# Altium footprint library RLC.PcbLib: 64 footprints (part 1 of 4)
Each footprint in its own frame and in the unit in brackets; x right, y up, seen from the top. Pads: shape width x height; smd on the part's side, far side on the other; paste and mask are expansions set on the pad; w line width, h text height; cw(c..) or ccw(c..) is an arc to the next point about the centre after c.
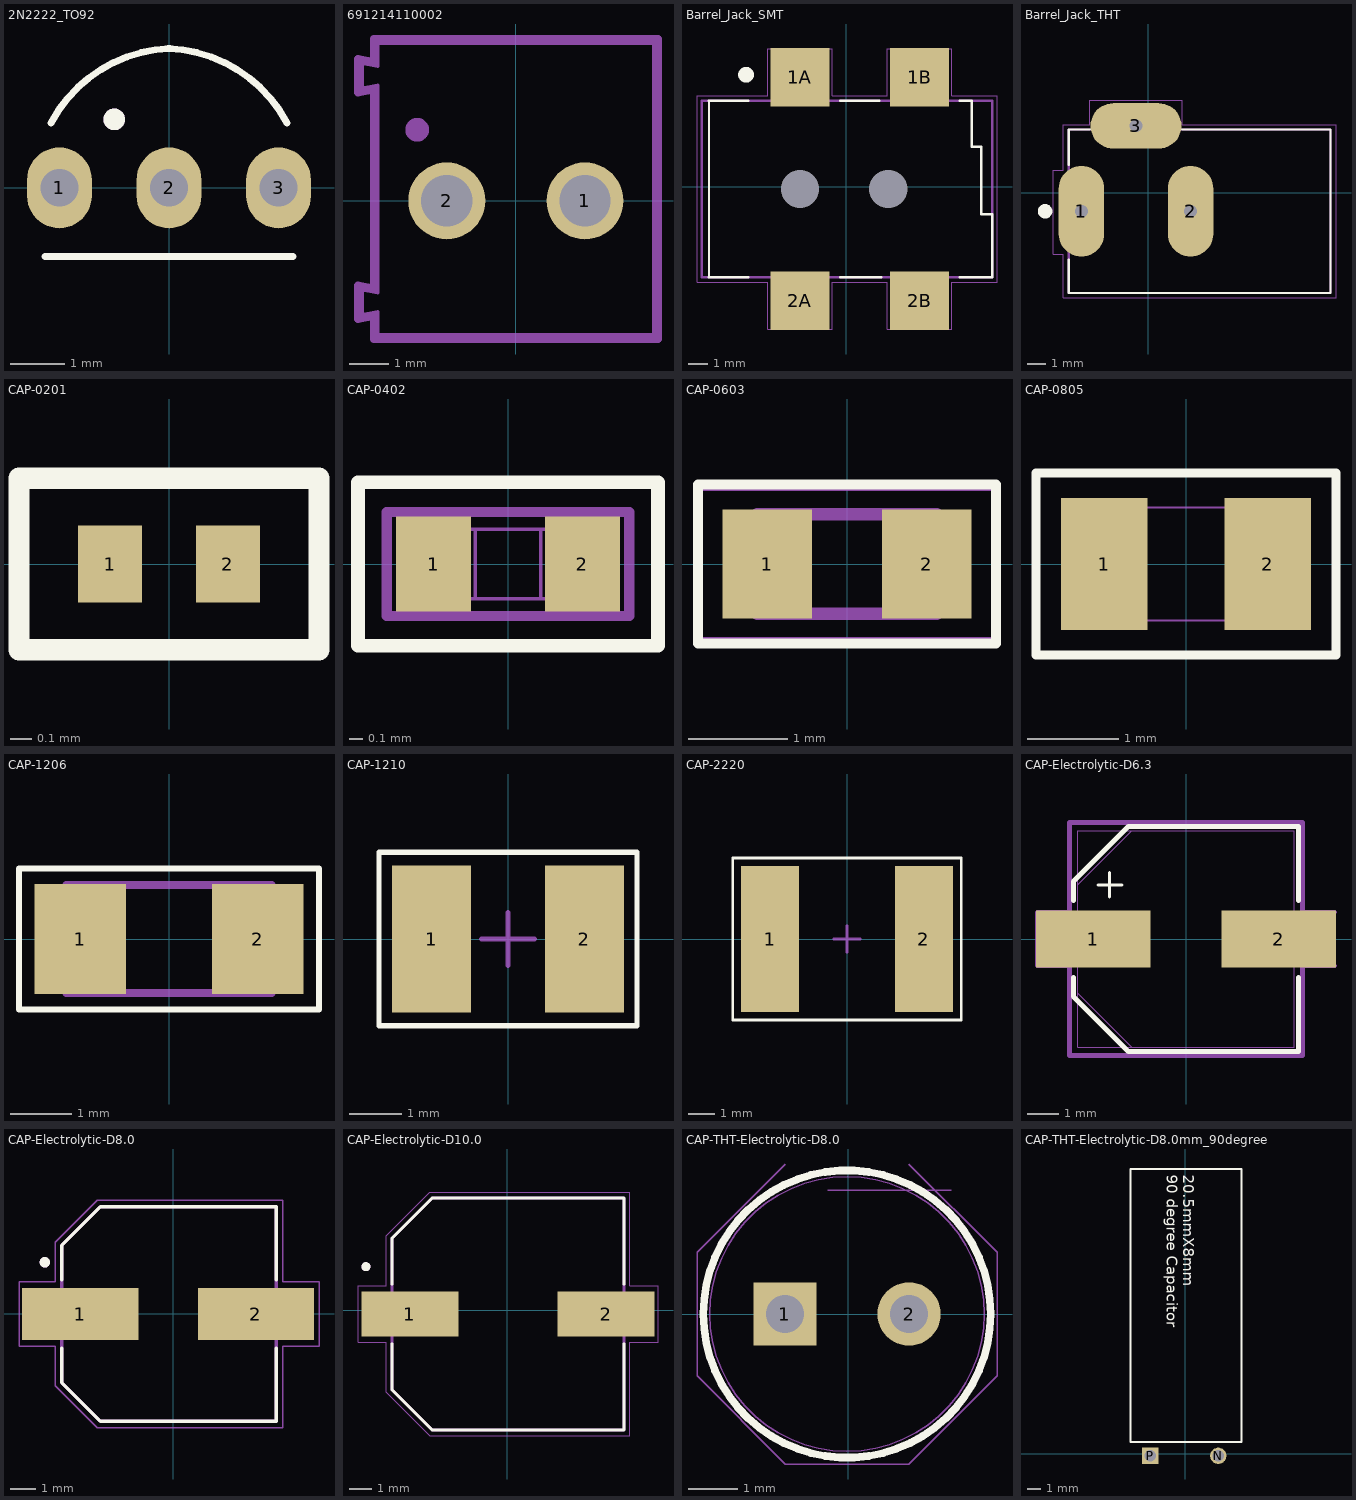
[diagram p0: the footprints below, top view; thin cyan lines are the x and y axes]

## 2N2222_TO92 [mm]
pads (3):
  oval 1.2x1.5 hole 0.7 mask+0.07: 1(-2.032,0) 2(0,0) 3(2.032,0)
Top Overlay:
  circle w0.2: c-1.016,1.27 r0.1
  lines w0.127: -2.3,-1.27 -0.896,-1.27 0.896,-1.27 2.3,-1.27 ; -2.19,1.203 cw(c0.112,-0.021) 0.021,2.585 ; -0.021,2.585 cw(c-0.112,-0.021) 2.19,1.203
Mechanical 13:
  circle w0.2: c-1.016,1.27 r0.1
  text "E B C" at -1.832,0.962 h0.8
3D body "2N2222.step": height 8.33, standoff -12.62, extent -2.379,-1.556 2.38,2.064

## 691214110002 [mm]
pads (2):
  round 1.95 hole 1.3: 1(1.75,0) 2(-1.75,0)
Mechanical 13:
  circle w0.4: c-2.5,1.8 r0.1
  lines w0.1: -3.9,-2.895 -3.9,-2.245 -3.5,-2.32 -3.5,2.92 -3.9,2.845 -3.9,3.495 -3.5,3.42 -3.5,4 3.5,4 3.5,-3.4 -3.5,-3.4 -3.5,-2.82 -3.9,-2.895
  lines w0.2: -4,-2.995 -3.6,-2.92 -3.6,-3.5 3.6,-3.5 3.6,4.1 -3.6,4.1 -3.6,3.52 -4,3.595 -4,2.745 -3.6,2.82 -3.6,-2.22 -4,-2.145 -4,-2.995
3D body "691214110002+%28rev1%29.stp": height 8.6, standoff -3.6, extent -3.646,-3.446 3.754,3.954

## Barrel_Jack_SMT [mm]
pads (6):
  rect 3x3 smd: 1A(-2.352,5.574) 1B(3.748,5.574) 2A(-2.352,-5.826) 2B(3.748,-5.826)
  round 1.9 hole 1.95 unplated: ""(-2.352,-0.126) ""(2.148,-0.126)
Top Overlay:
  circle w0.4: c-5.1,5.7 r0.2
  lines w0.1: -7,-4.626 -7,4.374
  lines w0.127: -7,-4.626 -5,-4.626 ; -7,4.374 -5,4.374 ; -0.3,-4.626 1.8,-4.626 ; -0.3,4.374 1.7,4.374 ; 5.8,-4.626 7.448,-4.626 7.448,-1.426 6.898,-1.426 6.898,2.024 6.398,2.024 6.398,4.374 5.8,4.374
Mechanical 13:
  lines w0.127: -7.352,-4.626 -7.352,4.374 7.448,4.374 7.448,-4.626 -7.352,-4.626
Mechanical 15:
  lines w0.05: -7.602,-4.876 -4.002,-4.876 -4.002,-7.276 -0.702,-7.276 -0.702,-4.876 2.098,-4.876 2.098,-7.276 5.398,-7.276 5.398,-4.876 7.698,-4.876 7.698,4.624 5.398,4.624 5.398,7.024 2.098,7.024 2.098,4.624 -0.702,4.624 -0.702,7.024 -4.002,7.024 -4.002,4.624 -7.602,4.624 -7.602,-4.876
3D body "Barrel_Jack_54-00164.STEP": height 11, standoff -1.2, extent -7.25,-6.2 7.45,6.2

## Barrel_Jack_THT [mm]
pads (3):
  oval 2.5x5 hole 0.7 square: 1(-3.683,-1.007) 2(2.317,-1.007)
  oval 5x2.5 hole 0.7 square: 3(-0.683,3.693)
Top Overlay:
  circle w0.4: c-5.683,-1.007 r0.2
  lines w0.127: -4.383,-3.657 -4.383,-5.507 10.017,-5.507 10.017,3.493 1.867,3.493 ; -4.383,1.543 -4.383,3.493 -3.233,3.493
Mechanical 13:
  lines w0.127: -4.383,-5.507 -4.383,3.493 10.017,3.493 10.017,-5.507 -4.383,-5.507
Mechanical 15:
  lines w0.05: -5.233,-3.357 -4.683,-3.357 -4.683,-5.757 10.317,-5.757 10.317,3.743 1.867,3.743 1.867,5.093 -3.233,5.093 -3.233,3.743 -4.683,3.743 -4.683,1.243 -5.233,1.243 -5.233,-3.357
3D body "Barrel_Jack_THT.STEP": height 11, standoff -3.5, extent -4.24,-5.77 10.16,3.63

## CAP-0201 [mm]
pads (2):
  rect 0.3x0.36 smd paste+0 mask+0.04: 1(-0.275,0) 2(0.275,0)
Top Overlay:
  lines w0.1: -0.7,-0.4 0.7,-0.4 0.7,0.4 -0.7,0.4 -0.7,-0.4
3D body "CAP-0201.step": height 0.3, standoff 0, extent -0.3,-0.165 0.3,0.165

## CAP-0402 [mm]
pads (2):
  rect 0.55x0.7 smd paste+0 mask+0.06: 1(-0.546,0) 2(0.546,0)
Top Overlay:
  lines w0.1: -1.1,-0.6 1.1,-0.6 1.1,0.6 -1.1,0.6 -1.1,-0.6
Mechanical 13:
  lines w0.025: -0.495,-0.254 -0.495,0.254 ; -0.495,-0.254 0.495,-0.254 ; -0.495,-0.254 -0.241,-0.254 -0.241,0.254 -0.495,0.254 ; -0.495,-0.254 -0.495,0.254 ; -0.495,0.254 0.495,0.254 ; 0.495,-0.254 0.495,0.254 ; 0.495,-0.254 0.495,0.254 ; 0.495,-0.254 0.241,-0.254 0.241,0.254 0.495,0.254
Mechanical 15:
  lines w0.076: -0.889,-0.381 0.889,-0.381 0.889,0.381 -0.889,0.381 -0.889,-0.381
3D body "G-155_MUR.step": height 0.56, standoff 0, extent -0.495,-0.254 0.495,0.254

## CAP-0603 [mm]
pads (2):
  rect 0.9x1.1 smd mask+0.06: 1(-0.8,0) 2(0.8,0)
Top Overlay:
  lines w0.1: -1.5,-0.8 -1.5,0.8 1.5,0.8 1.5,-0.8 -1.5,-0.8
Mechanical 13:
  lines w0.127: -0.9,-0.5 -0.9,0.5 0.9,0.5 0.9,-0.5 -0.9,-0.5
Mechanical 15:
  lines w0.05: -1.508,-0.758 -1.508,0.758 1.508,0.758 1.508,-0.758 -1.508,-0.758
3D body "CAP-0603.step": height 0.8, standoff 0, extent -0.8,-0.508 0.8,0.492

## CAP-0805 [mm]
pads (2):
  rect 0.95x1.45 smd paste+0 mask+0.06: 1(-0.9,0) 2(0.9,0)
Top Overlay:
  lines w0.1: -1.65,-1 1.65,-1 1.65,1 -1.65,1 -1.65,-1
Mechanical 13:
  lines w0.025: -1.003,-0.622 -1.003,0.622 ; -1.003,-0.622 -0.495,-0.622 -0.495,0.622 -1.003,0.622 ; -1.003,-0.622 1.003,-0.622 ; -1.003,-0.622 -1.003,0.622 ; -1.003,0.622 1.003,0.622 ; 1.003,-0.622 0.495,-0.622 0.495,0.622 1.003,0.622 ; 1.003,-0.622 1.003,0.622 ; 1.003,-0.622 1.003,0.622
3D body "CAP-0805.step": height 0.95, standoff 0, extent -1,-0.625 1,0.625

## CAP-1206 [mm]
pads (2):
  rect 1.5x1.8 smd mask+0.06: 1(-1.45,0) 2(1.45,0)
Top Overlay:
  lines w0.1: -2.45,-1.15 2.45,-1.15 2.45,1.15 -2.45,1.15 -2.45,-1.15
Mechanical 13:
  lines w0.127: -1.68,-0.88 1.68,-0.88 1.68,0.88 -1.68,0.88 -1.68,-0.88
3D body "step_temp.STEP": height 0.95, standoff 0, extent -1.6,-0.8 1.6,0.8

## CAP-1210 [mm] "CAP 1210"
pads (2):
  rect 1.5x2.8 smd paste+0 mask+0.06: 1(-1.45,0) 2(1.45,0)
Top Overlay:
  lines w0.1: -2.45,-1.65 2.45,-1.65 2.45,1.65 -2.45,1.65 -2.45,-1.65
Mechanical 16:
  lines w0.1: -0.5,0 0.5,0 ; 0,-0.5 0,0.5
3D body "CAP-1210.step": height 2.7, standoff 0, extent -1.6,-1.25 1.6,1.25

## CAP-2220 [mm]
pads (2):
  rect 2.2x5.5 smd paste+0 mask+0.06: 1(-2.9,0) 2(2.9,0)
Top Overlay:
  lines w0.1: -4.3,-3.05 4.3,-3.05 4.3,3.05 -4.3,3.05 -4.3,-3.05
Mechanical 16:
  lines w0.1: -0.5,0 0.5,0 ; 0,-0.5 0,0.5
3D body "CAP-2220.STEP": height 2.79, standoff 0, extent -2.85,-2.5 2.85,2.5

## CAP-Electrolytic-D6.3 [mm]
pads (2):
  rect 3.6x1.8 smd paste+0: 1(-2.908,0) 2(2.908,0)
Top Overlay:
  lines w0.1: -2.767,1.697 -2.005,1.697 ; -2.4,1.319 -2.4,2.081
  lines w0.152: -3.531,-1.2 -3.531,-1.809 -1.809,-3.531 3.531,-3.531 3.531,-1.2 ; -3.531,1.2 -3.531,1.814 -1.814,3.531 3.531,3.531 3.531,1.2
Mechanical 13:
  lines w0.025: -3.404,-1.702 -1.702,-3.404 ; -3.404,1.702 -1.702,3.404 ; -3.404,-3.404 3.404,-3.404 3.404,3.404 -3.404,3.404 -3.404,-3.404
Mechanical 15:
  lines w0.152: 4.661,-0.838 3.658,-0.838 3.658,-3.658 -3.658,-3.658 -3.658,-0.838 -4.661,-0.838 -4.661,0.838 -3.658,0.838 -3.658,3.658 3.658,3.658 3.658,0.838 4.661,0.838
3D body "CAP-D6.3mm-SMD_Aluminium_Electrolytic.step": height 7.7, standoff 0, extent -3.65,-3.3 3.65,3.3

## CAP-Electrolytic-D8.0 [mm]
pads (2):
  rect 4.5x2 smd mask+0.09: 1(-3.6,0) 2(3.2,0)
Top Overlay:
  circle w0.2: c-4.962,2 r0.1
  lines w0.127: -4.312,-1.32 -4.312,-2.65 -2.812,-4.15 3.988,-4.15 3.988,-1.32 ; -4.312,1.32 -4.312,2.65 -2.812,4.15 3.988,4.15 3.988,1.32
Mechanical 13:
  circle w0.2: c-4.962,2 r0.1
  lines w0.127: -4.312,-2.65 -4.312,2.65 -2.812,4.15 3.988,4.15 3.988,-4.15 -2.812,-4.15 -4.312,-2.65
Mechanical 15:
  lines w0.05: -5.962,-1.25 -4.562,-1.25 -4.562,-2.775 -2.937,-4.4 4.238,-4.4 4.238,-1.25 5.638,-1.25 5.638,1.25 4.238,1.25 4.238,4.4 -2.937,4.4 -4.562,2.775 -4.562,1.25 -5.962,1.25 -5.962,-1.25
3D body "step_temp.STEP": height 10.2, standoff 0, extent -5.012,-4.15 4.688,4.15

## CAP-Electrolytic-D10.0 [mm]
pads (2):
  rect 4.3x2 smd: 1(-4.311,-0.171) 2(4.389,-0.171)
Top Overlay:
  circle w0.2: c-6.261,1.929 r0.1
  lines w0.127: -5.111,-1.491 -5.111,-3.521 -3.311,-5.321 5.189,-5.321 5.189,-1.491 ; -5.111,1.149 -5.111,3.179 -3.311,4.979 5.189,4.979 5.189,1.149
Mechanical 13:
  circle w0.2: c-6.261,1.929 r0.1
  lines w0.127: -5.111,-3.521 -3.311,-5.321 5.189,-5.321 5.189,4.979 -3.311,4.979 -5.111,3.179 -5.111,-3.521
Mechanical 15:
  lines w0.05: -6.611,-1.421 -6.611,1.079 -5.361,1.079 -5.361,3.304 -3.436,5.229 5.439,5.229 5.439,1.079 6.689,1.079 6.689,-1.421 5.439,-1.421 5.439,-5.571 -3.436,-5.571 -5.361,-3.646 -5.361,-1.421 -6.611,-1.421
3D body "step_temp.STEP": height 10.2, standoff 0, extent -5.811,-5.321 5.889,4.979

## CAP-THT-Electrolytic-D8.0 [mil]
pads (2):
  rect 50x50 hole 30 paste-99999 mask+0: 1(-50,0)
  round 50 hole 30 paste-99999 mask+0: 2(48,0)
Top Overlay:
  circle w6: c-1,0 r113.5
Mechanical 13:
  circle w1: c-1,0 r108.5
Mechanical 15:
  lines w1: -49.79,118.5 -119.5,48.79 -119.5,-48.79 -49.79,-118.5 47.79,-118.5 117.5,-48.79 117.5,48.79 47.79,118.5 ; -16.31,97.64 81.28,97.64
3D body "CAP_THT_Lead_3.50mm_R8mm_8mm_Height.step": height 451.61, standoff -184.02, extent -166.08,-157.37 150,157.37

## CAP-THT-Electrolytic-D8.0mm_90degree [mm]
pads (2):
  round 1.2 hole 0.85 mask+0.05: N(2.427,-0.154)
  rect 1.2x1.2 / inner round 1.2 / far side rect 1.2x1.2 hole 0.85 mask+0.05: P(-2.573,-0.154)
Top Overlay:
  lines w0.152: -4.01,0.862 4.118,0.862 4.118,20.928 -4.01,20.928 -4.01,0.862
  text "20.5mmX8mm  / 90 degree Capacitor" at -1.343,20.483 h0.8
3D body "C-HOR__D-8__L-20__P5__STAND-0__TMP-105__C-100u__U-16.stp": height 8, standoff -3.6, extent -3.947,-0.504 4.054,20.846